# Altium schematic symbol library 4007_SMD.SchLib: 1 symbol
Pins are listed as number, name and electrical type; pins without a type are passive.

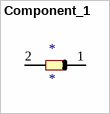
[diagram p0: symbol Component_1]

## Component_1
designator *
footprint DIOM5127X24N (Molded Diode, 2-Leads, Body 5.1x2.7mm, IPC Medium Density)
pins: 1, 2